# Altium footprint library MainBLib.PcbLib: 36 footprints (part 1 of 3)
Each footprint in its own frame and in the unit in brackets; x right, y up, seen from the top. Pads: shape width x height; smd on the part's side, far side on the other; paste and mask are expansions set on the pad; w line width, h text height; cw(c..) or ccw(c..) is an arc to the next point about the centre after c.
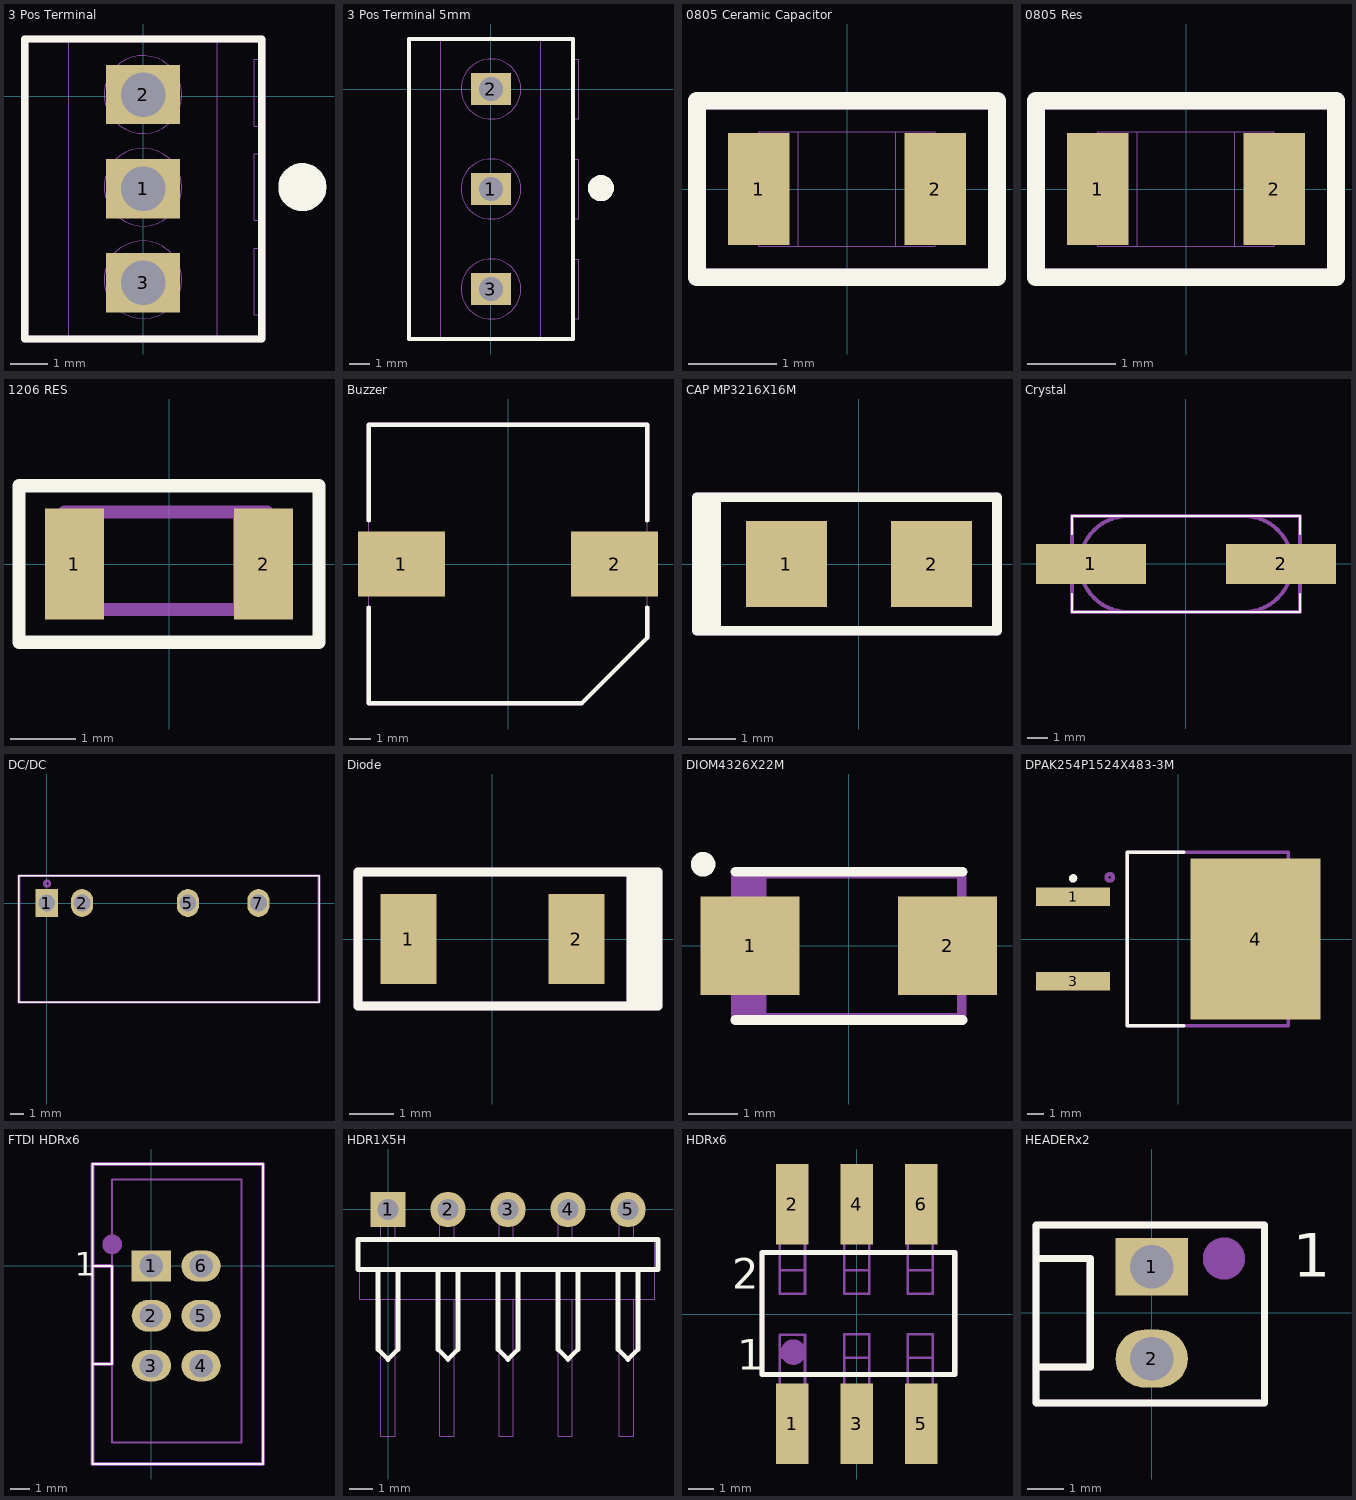
[diagram p0: the footprints below, top view; thin cyan lines are the x and y axes]

## 3 Pos Terminal [mm]
pads (3):
  rect 2x1.6 hole 1.2: 1(0,-2.5) 2(0,0.04) 3(0,-5.04)
Top Overlay:
  circle w0.7: c4.3,-2.46 r0.3
  lines w0.2: -3.2,-6.56 3.2,-6.56 3.2,1.54 -3.2,1.54 -3.2,-6.56
Mechanical 1:
  circle w0: c0,0.04 r1.05
  circle w0: c0,-2.46 r1.05
  circle w0: c0,-4.96 r1.05
  lines w0: -2,-6.56 -2,1.54 ; 2,-6.56 2,1.54 ; -3.2,-6.56 -3.2,1.54 3.2,1.54 3.2,-6.56 -3.2,-6.56 ; -0.1,-5.36 0.1,-5.36 0.1,-4.56 -0.1,-4.56 -0.1,-5.36 ; -0.1,-2.86 0.1,-2.86 0.1,-2.06 -0.1,-2.06 -0.1,-2.86 ; -0.1,-0.36 -0.1,0.44 0.1,0.44 0.1,-0.36 -0.1,-0.36 ; 2.999,-5.91 2.999,-4.11 3.299,-4.11 3.299,-5.91 3.099,-5.91 2.999,-5.91 ; 3,-3.36 3.1,-3.36 3.3,-3.36 3.3,-1.56 3,-1.56 3,-3.36 ; 2.999,-0.81 3.099,-0.81 3.299,-0.81 3.299,0.99 2.999,0.99 2.999,-0.81
Mechanical 29:
  lines w0.2: -3.2,-6.56 -3.2,1.54 3.2,1.54 3.2,-6.56 -3.2,-6.56
  text "'.Designator'" at -0.9,-2.86 h1.2
3D body: height 8.51, standoff 0, extent -1.049,-6.009 1.049,-3.911
3D body: height 8.51, standoff 0, extent -1.049,-3.509 1.049,-1.411
3D body: height 8.51, standoff 0, extent -1.049,-1.009 1.049,1.089
3D body: height 4.5, standoff 0, extent -3.199,-6.559 3.199,1.539
3D body: height 8.5, standoff 4.5, extent -1.999,-6.559 1.999,1.539
3D body: height 0, standoff -3, extent -0.099,-5.36 0.099,-4.561
3D body: height 0, standoff -3, extent -0.099,-2.86 0.099,-2.061
3D body: height 0, standoff -3, extent -0.099,-0.359 0.099,0.439
3D body: height 3.8, standoff 1, extent 3.201,-0.809 3.299,0.989
3D body: height 3.8, standoff 1, extent 3.201,-3.359 3.299,-1.561
3D body: height 3.8, standoff 1, extent 3.201,-5.909 3.299,-4.111

## 3 Pos Terminal 5mm [mm]
pads (3):
  rect 2x1.6 hole 1.2: 1(0,-5) 2(0,0) 3(0,-10)
Top Overlay:
  circle w0.7: c5.5,-4.96 r0.3
  lines w0.2: -4.1,-12.5 -4.1,2.5 4.1,2.5 4.1,-12.5 -4.1,-12.5
Mechanical 1:
  circle w0: c0,-10 r1.5
  circle w0: c0,0 r1.5
  circle w0: c0,-5 r1.5
  lines w0: -2.5,-12.5 -2.5,2.5 ; 2.5,-12.5 2.5,2.5 ; 4.1,-11.5 4.4,-11.5 4.4,-8.5 4.1,-8.5 ; 4.1,-6.5 4.4,-6.5 4.4,-3.5 4.1,-3.5 ; 4.1,-1.5 4.4,-1.5 4.4,1.5 4.1,1.5 ; -4.1,-12.5 -4.1,2.5 4.1,2.5 4.1,-12.5 -4.1,-12.5
Mechanical 29:
  circle w0.7: c5.5,-4.96 r0.3
  lines w0.2: -4.1,-12.5 4.1,-12.5 4.1,2.5 -4.1,2.5 -4.1,-12.5
  text "'.Designator'" at 0.5,-5.8 h1.2
3D body: height 4, standoff 1, extent 3.901,-1.499 4.199,1.499
3D body: height 4, standoff 1, extent 3.901,-6.499 4.199,-3.501
3D body: height 4, standoff 1, extent 3.901,-11.499 4.199,-8.501
3D body: height 10.01, standoff 0, extent -1.499,-1.499 1.499,1.499
3D body: height 10.01, standoff 0, extent -1.499,-6.499 1.499,-3.501
3D body: height 10, standoff 5, extent -2.499,-12.499 2.499,2.499
3D body: height 5, standoff 0, extent -4.099,-12.499 4.099,2.499
3D body: height 10.01, standoff 0, extent -1.499,-11.499 1.499,-8.501
3D body: height 0, standoff -3, extent -0.099,-10.449 0.1,-9.65
3D body: height 0, standoff -3, extent -0.099,-5.449 0.1,-4.65
3D body: height 0, standoff -3, extent -0.099,-0.35 0.1,0.449

## 0805 Ceramic Capacitor [mm]
pads (2):
  rect 0.7x1.27 smd: 1(-1,0) 2(1,0)
Top Overlay:
  lines w0.2: -1.7,-1 -1.7,1 1.7,1 1.7,-1 -1.7,-1
Mechanical 1:
  lines w0: -0.55,-0.65 -0.55,0.65 ; 0.55,-0.65 0.55,0.65 ; -1,-0.65 -1,0.65 1,0.65 1,-0.65 -1,-0.65
Mechanical 29:
  lines w0.2: -1.7,-1 1.7,-1 1.7,1 -1.7,1 -1.7,-1
  text "'.Designator'" at -1.1,-0.4 h0.9
3D body: height 0.8, standoff 0, extent -0.549,-0.649 0.549,0.649
3D body: height 0.8, standoff 0, extent 0.551,-0.649 0.999,0.649
3D body: height 0.8, standoff 0, extent -0.999,-0.649 -0.551,0.649

## 0805 Res [mm]
pads (2):
  rect 0.7x1.27 smd: 1(-1,0) 2(1,0)
Top Overlay:
  lines w0.2: -1.7,-1 1.7,-1 1.7,1 -1.7,1 -1.7,-1
Mechanical 1:
  lines w0: -0.55,-0.65 -0.55,0.65 ; 0.55,-0.65 0.55,0.65 ; -1,-0.65 1,-0.65 1,0.65 -1,0.65 -1,-0.65
Mechanical 29:
  lines w0.2: -1.7,-1 -1.7,1 1.7,1 1.7,-1 -1.7,-1
  text "'.Designator'" at -1.1,-0.4 h0.9
3D body: height 0.8, standoff 0, extent -0.999,-0.649 -0.551,0.649
3D body: height 0.8, standoff 0, extent 0.551,-0.649 0.999,0.649
3D body: height 0.8, standoff 0, extent -0.549,-0.649 0.549,0.649

## 1206 RES [mm]
pads (2):
  rect 0.9x1.7 smd: 1(-1.45,0) 2(1.45,0)
Top Overlay:
  lines w0.2: -2.3,-1.2 -2.3,1.2 2.3,1.2 2.3,-1.2 -2.3,-1.2
Mechanical 1:
  lines w0.04: -1.6,0.8 -1.6,-0.7 1.5,-0.7 1.5,0.8 -1.599,0.799 ; -1.1,-0.7 -1.1,0.8 ; 1,-0.7 1,0.8
Mechanical 29:
  lines w0.2: -1.6,0.8 -1.6,-0.7 1.5,-0.7 1.5,0.8 -1.599,0.799
  text "'.Designator'" at -1.2,-0.5 h1
3D body: height 0.55, standoff 0, extent 1.001,-0.699 1.499,0.799
3D body: height 0.55, standoff 0, extent -1.099,-0.699 0.999,0.799
3D body: height 0.55, standoff 0, extent -1.599,-0.699 -1.101,0.799

## Buzzer [mm]
pads (2):
  rect 4x3 smd: 1(-4.9,0) 2(4.9,0)
Top Overlay:
  lines w0.2: -6.4,-2 -6.4,-6.4 3.4,-6.4 6.4,-3.4 6.4,-2 ; -6.4,2 -6.4,6.4 6.4,6.4 6.4,2
Mechanical 1:
  lines w0: -6.4,-6.4 -6.4,2 -6.4,6.4 6.4,6.4 6.4,-2 6.4,-3.4 3.4,-6.4 -6.4,-6.4
Mechanical 29:
  lines w0.2: -6.4,-2 -6.4,-6.4 3.4,-6.4 6.4,-3.4 6.4,-2 ; -6.4,2 -6.4,6.4 6.4,6.4 6.4,2
  text "'.Designator'" at -1.1,0 h0.9
3D body: height 7, standoff 0, extent -6.401,-6.401 6.401,6.401

## CAP MP3216X16M [mm] "Molded Capacitor, 2-Leads, Body 3.20x1.60mm, IPC Low Density"
height 1.6
pads (2):
  rect 1.7x1.8 smd: 1(-1.525,0) 2(1.525,0)
Top Overlay:
  rectangle: -3.4,-1.5 -2.9,1.5
  lines w0.2: -3.4,-1.4 -3.4,1.4 2.9,1.4 2.9,-1.4 -3.4,-1.4
Mechanical 29:
  rectangle: -3.4,-1.5 -2.9,1.5
  lines w0.2: -3.4,-1.4 2.9,-1.4 2.9,1.4 -3.4,1.4 -3.4,-1.4
  text "'.Designator'" at -1.7,-0.5 h1.2
3D body "CAPMP3216X16M.step": height 1.6, standoff 0, extent -1.92,-0.9 1.92,0.9

## Crystal [mm]
pads (2):
  rect 5.5x2 smd: 1(-4.75,0) 2(4.75,0)
Top Overlay:
  lines w0.1: 5.7,-1.5 5.7,-2.4 -5.7,-2.4 -5.7,-1.5 ; 5.7,1.5 5.7,2.4 -5.7,2.4 -5.7,1.5 ; -5.7,-1.5 -5.7,-1.5 ; -5.7,1.5 -5.7,1.5
Mechanical 1:
  lines w0.1: -5.7,-2.4 -5.7,2.4 ; 5.7,-2.4 5.7,2.4 ; -6.7,-0.3 -5.7,-0.3 -5.7,0.3 -6.7,0.3 -6.7,-0.3 ; -2.924,-2.4 cw(c-2.9,0) -2.924,2.4 2.924,2.4 cw(c2.9,0) 2.924,-2.4 -2.924,-2.4 ; 5.7,-0.3 6.7,-0.3 6.7,0.3 5.7,0.3 5.7,-0.3
Mechanical 29:
  lines w0.2: -2.924,-2.4 cw(c-2.9,0) -2.924,2.4 ; 2.924,-2.4 ccw(c2.9,0) 2.924,2.4 ; -5.7,-2.4 -5.7,2.4 5.7,2.4 5.7,-2.4 -5.7,-2.4
  text "'.Designator'" at -0.7,-0.5 h1.2
3D body: height 3.2, standoff 0.75, extent -5.301,-2.401 5.301,2.401
3D body: height 0.2, standoff 0, extent 5.701,-0.299 6.699,0.299
3D body: height 0.2, standoff 0, extent -6.699,-0.299 -5.701,0.299
3D body: height 0.75, standoff 0, extent -5.75,-2.45 5.75,2.45

## DC/DC [mm]
pads (4):
  rect 1.6x2 hole 1.2: 1(0,0)
  oval 1.6x2 hole 1.2: 2(2.54,0) 5(10.16,0) 7(15.24,0)
Top Overlay:
  lines w0.1: -2,-7.14 -2,-2.04 -2,1.96 19.6,1.96 19.6,-7.14 -2,-7.14
Mechanical 1:
  lines w0.1: -2,-7.14 19.6,-7.14 19.6,1.96 -2,1.96 -2,-2.04 -2,-7.14 ; -0.3,-0.14 0.3,-0.14 0.3,0.06 -0.3,0.06 -0.3,-0.14 ; 2.3,-0.14 2.3,0.06 2.9,0.06 2.9,-0.14 2.3,-0.14 ; 9.8,-0.14 9.8,0.06 10.4,0.06 10.4,-0.14 9.8,-0.14 ; 14.9,-0.14 14.9,0.06 15.5,0.06 15.5,-0.14 14.9,-0.14
Mechanical 29:
  circle w0.2: c0.02,1.4 r0.2
  lines w0.2: -2,-7.14 19.6,-7.14 19.6,1.96 -2,1.96 -2,-2.04 -2,-7.14
  text "'.Designator'" at 7.12,-3.4 h1.2
3D body: height 10, standoff 0, extent -1.999,-7.139 19.599,1.959
3D body: height 0, standoff -4, extent -0.299,-0.139 0.299,0.059
3D body: height 0, standoff -4, extent 2.301,-0.139 2.899,0.059
3D body: height 0, standoff -4, extent 9.801,-0.139 10.399,0.059
3D body: height 0, standoff -4, extent 14.901,-0.139 15.499,0.059

## Diode [mm]
pads (2):
  rect 1.25x2 smd: 1(-1.875,0) 2(1.875,0)
Top Overlay:
  rectangle: 3,-1.5 3.7,1.5
  lines w0.2: -3,-1.5 3.7,-1.5 3.7,1.5 -3,1.5 -3,-1.5
Mechanical 29:
  rectangle: 3,-1.5 3.7,1.5
  lines w0.2: -3,-1.5 -3,1.5 3.7,1.5 3.7,-1.5 -3,-1.5
  text "'.Designator'" at -1.4,-0.5 h1.2
3D body: height 1.59, standoff 0, extent 1.6,-0.798 2,0.798
3D body: height 1.59, standoff 0, extent 1.3,-0.798 1.6,0.798
3D body: height 1.59, standoff 0, extent -1.4,-0.798 1.3,0.798
3D body: height 1.59, standoff 0, extent -1.8,-0.798 -1.4,0.798

## DIOM4326X22M [mm] "Molded Diode, 2-Leads, Body 4.31x2.60mm, IPC Low Density"
height 2.2
pads (2):
  rect 2x2 smd: 1(-2,0) 2(2,0)
Top Overlay:
  circle w0.25: c-2.95,1.65 r0.125
  lines w0.2: -2.3,-1.5 2.3,-1.5 ; -2.3,1.5 2.3,1.5
Mechanical 29:
  rectangle: -2.285,-1.46 -1.67,1.46
  lines w0.2: -2.285,-1.46 2.285,-1.46 2.285,1.46 -2.285,1.46 -2.285,-1.46
  text "'.Designator'" at -0.8,-0.6 h1.2
3D body "DIOM4326X22M.step": height 2.2, standoff 0, extent -2.505,-1.46 2.505,1.46

## DPAK254P1524X483-3M [mm] "D2-PAK, 3-Pads, Body 7.93x8.57mm (max), IPC Low Density"
height 4.83
pads (3):
  rect 4.45x1.1 smd: 1(-6.3,2.54) 3(-6.3,-2.54)
  rect 7.8x9.65 smd: 4(4.65,0)
Top Overlay:
  circle w0.25: c-6.3,3.64 r0.125
  lines w0.2: 0.35,-5.2 -3.05,-5.2 -3.05,5.2 0.35,5.2
Mechanical 29:
  circle w0.25: c-4.1,3.7 r0.2
  lines w0.2: -3.05,-5.2 -3.05,5.2 6.6,5.2 6.6,-5.2 -3.05,-5.2
  text "'.Designator'" at 1.3,1 h1.2
3D body "DPAK254P1524X483-3M.step": height 4.83, standoff 0, extent -6.981,-5.2 8.259,5.2

## FTDI HDRx6 [mm]
pads (6):
  rect 2x1.6 hole 1.2: 1(0,0)
  oval 2x1.6 hole 1.2: 2(0,-2.54) 3(0,-5.08) 4(2.54,-5.08) 5(2.54,-2.54) 6(2.54,0)
Top Overlay:
  lines w0.1: -3,-5 -2,-5 -2,0 -3,0 ; -3,-10.1 5.7,-10.1 5.7,5.2 -3,5.2 -3,-10.1
  text "1" at -3.9,-0.5 h1.2
Mechanical 1:
  lines w0.1: -3,-5 -2,-5 -2,-9 4.6,-9 4.6,4.4 -2,4.4 -2,0 -3,0 ; -3,-5 -3,-10.1 5.7,-10.1 5.7,5.2 -3,5.2 -3,0 ; -3,-5 -3,0 ; -0.3,-5.3 -0.3,-4.7 0.3,-4.7 0.3,-5.3 -0.3,-5.3 ; -0.3,-2.8 -0.3,-2.2 0.3,-2.2 0.3,-2.8 -0.3,-2.8 ; -0.3,-0.3 0.3,-0.3 0.3,0.3 -0.3,0.3 -0.3,-0.3 ; 2.2,-5.3 2.8,-5.3 2.8,-4.7 2.2,-4.7 2.2,-5.3 ; 2.2,-2.8 2.8,-2.8 2.8,-2.2 2.2,-2.2 2.2,-2.8 ; 2.2,-0.3 2.2,0.3 2.8,0.3 2.8,-0.3 2.2,-0.3
Mechanical 29:
  circle w0.8: c-2,1.1 r0.1
  lines w0.2: -3,-5 -2,-5 -2,0 -3,0 ; -3,-10.1 -3,5.2 5.7,5.2 5.7,-10.1 -3,-10.1
  text "'.Designator'" at 1.8,-3.5 h1.2
3D body: height 2.6, standoff 0, extent -3.05,-10.15 5.75,5.25
3D body: height 9.1, standoff 0, extent -2.999,-10.099 5.699,5.199
3D body: height 9, standoff -3, extent -0.299,-5.299 0.299,-4.701
3D body: height 9, standoff -3, extent -0.299,-2.799 0.299,-2.201
3D body: height 9, standoff -3, extent -0.299,-0.299 0.299,0.299
3D body: height 9, standoff -3, extent 2.201,-5.299 2.799,-4.701
3D body: height 9, standoff -3, extent 2.201,-2.799 2.799,-2.201
3D body: height 9, standoff -3, extent 2.201,-0.299 2.799,0.299

## HDR1X5H [mm] "Connector; Header; 5 Position; Right Angle"
pads (5):
  rect 1.5x1.5 hole 0.9: 1(0,0)
  round 1.5 hole 0.9: 2(2.54,0) 3(5.08,0) 4(7.62,0) 5(10.16,0)
Top Overlay:
  lines w0.2: -0.423,-2.54 -0.423,-5.927 0,-6.35 0.423,-5.927 0.423,-2.54 ; 2.117,-2.54 2.117,-5.927 2.54,-6.35 2.963,-5.927 2.963,-2.54 ; 4.657,-2.54 4.657,-5.927 5.08,-6.35 5.503,-5.927 5.503,-2.54 ; 7.197,-2.54 7.197,-5.927 7.62,-6.35 8.043,-5.927 8.043,-2.54 ; 9.737,-2.54 9.737,-5.927 10.16,-6.35 10.583,-5.927 10.583,-2.54 ; -1.27,-2.54 11.43,-2.54 11.43,-1.27 -1.27,-1.27 -1.27,-2.54
Mechanical 1:
  lines w0: -0.3,-3.8 -0.3,-9.6 0.3,-9.6 0.3,-3.8 ; -0.3,-0.4 0.3,-0.4 ; 2.2,-3.8 2.2,-9.6 2.8,-9.6 2.8,-3.8 ; 2.2,-0.4 2.8,-0.4 ; 4.7,-3.8 4.7,-9.6 5.3,-9.6 5.3,-3.8 ; 4.7,-0.4 5.3,-0.4 ; 7.2,-3.8 7.2,-9.6 7.8,-9.6 7.8,-3.8 ; 7.2,-0.4 7.8,-0.4 ; 9.8,-3.8 9.8,-9.6 10.4,-9.6 10.4,-3.8 ; 9.8,-0.4 10.4,-0.4 ; -1.2,-3.8 11.3,-3.8 11.3,-1.3 -1.2,-1.3 -1.2,-3.8 ; -0.3,-1.3 -0.3,0.2 0.3,0.2 0.3,-1.3 -0.3,-1.3 ; 2.2,-1.3 2.2,0.2 2.8,0.2 2.8,-1.3 2.2,-1.3 ; 4.7,-1.3 4.7,0.2 5.3,0.2 5.3,-1.3 4.7,-1.3 ; 7.2,-1.3 7.2,0.2 7.8,0.2 7.8,-1.3 7.2,-1.3 ; 9.8,-1.3 9.8,0.2 10.4,0.2 10.4,-1.3 9.8,-1.3
3D body: height 1.55, standoff -1.5, extent 7.201,-0.399 7.799,0.199
3D body: height 1.55, standoff 0.95, extent 7.201,-1.299 7.799,-0.401
3D body: height 1.55, standoff 0.95, extent 7.201,-9.599 7.799,-3.801
3D body: height 1.55, standoff -1.5, extent 4.701,-0.399 5.299,0.199
3D body: height 1.55, standoff 0.95, extent 4.701,-1.299 5.299,-0.401
3D body: height 1.55, standoff -1.5, extent 2.201,-0.399 2.799,0.199
3D body: height 1.55, standoff 0.95, extent 2.201,-1.299 2.799,-0.401
3D body: height 1.55, standoff -1.5, extent -0.299,-0.399 0.299,0.199
3D body: height 1.55, standoff 0.95, extent 4.701,-9.599 5.299,-3.801
3D body: height 1.55, standoff 0.95, extent 2.201,-9.599 2.799,-3.801
3D body: height 1.55, standoff 0.95, extent -0.299,-1.299 0.299,-0.401
3D body: height 1.55, standoff 0.95, extent -0.299,-9.599 0.299,-3.801
3D body: height 1.55, standoff 0.95, extent 9.801,-1.299 10.399,-0.401
3D body: height 1.55, standoff -1.5, extent 9.801,-0.399 10.399,0.199
3D body: height 2.5, standoff 0, extent -1.199,-3.799 11.299,-1.301
3D body: height 1.55, standoff 0.95, extent 9.801,-9.599 10.399,-3.801

## HDRx6 [mm]
pads (6):
  rect 1.27x3.18 smd: 1(-2.54,-4.32) 2(-2.54,4.32) 3(0,-4.32) 4(0,4.32) 5(2.54,-4.32) 6(2.54,4.32)
Top Overlay:
  lines w0.2: -3.74,-2.38 -3.74,2.42 3.86,2.42 3.86,-2.38 -3.74,-2.38
  text "1" at -4.7,-2.2 h1.2
  text "2" at -4.9,1 h1.2
Mechanical 1:
  lines w0.1: -3.74,-2.38 -3.74,2.42 -3.04,2.42 ; -3.739,-2.381 -3.039,-2.381 ; -3.04,-1.73 -2.04,-1.73 ; -3.04,1.72 -2.04,1.72 ; -2.041,-2.381 -0.499,-2.381 ; -2.041,2.421 -0.499,2.421 ; -0.5,-1.725 0.5,-1.725 ; -0.5,1.725 0.5,1.725 ; 0.499,-2.381 2.001,-2.381 ; 0.499,2.421 2.001,2.421 ; 2,-1.725 3,-1.725 ; 2,1.725 3,1.725 ; 3,-2.38 3.86,-2.38 3.86,2.42 2.999,2.421 ; -3.04,-5.23 -3.04,-0.81 -2.04,-0.81 -2.04,-5.23 -3.04,-5.23 ; -3.04,0.8 -2.04,0.8 -2.04,5.22 -3.04,5.22 -3.04,0.8 ; -0.5,-5.225 0.5,-5.225 0.5,-0.805 -0.5,-0.805 -0.5,-5.225 ; -0.5,0.805 -0.5,5.225 0.5,5.225 0.5,0.805 -0.5,0.805 ; 2,-5.225 3,-5.225 3,-0.805 2,-0.805 2,-5.225 ; 2,0.805 2,5.225 3,5.225 3,0.805 2,0.805
Mechanical 29:
  circle w0.8: c-2.5,-1.5 r0.1
  lines w0.2: -3.74,-2.38 3.86,-2.38 3.86,2.42 -3.74,2.42 -3.74,-2.38
  text "'.Designator'" at -1.2,-0.3 h1.2
3D body: height 3.54, standoff 1, extent -3.739,-2.379 3.859,2.419
3D body: height 1, standoff 0, extent -3.039,-5.229 -2.041,-1.731
3D body: height 9, standoff 0, extent -3.039,-1.729 -2.041,-0.811
3D body: height 1, standoff 0, extent -0.499,-5.224 0.499,-1.726
3D body: height 9, standoff 0, extent -0.499,-1.724 0.499,-0.806
3D body: height 9, standoff 0, extent -3.039,0.801 -2.041,1.719
3D body: height 1, standoff 0, extent -3.039,1.721 -2.041,5.219
3D body: height 9, standoff 0, extent -0.499,0.806 0.499,1.724
3D body: height 1, standoff 0, extent -0.499,1.726 0.499,5.224
3D body: height 1, standoff 0, extent 2.001,-5.224 2.999,-1.726
3D body: height 9, standoff 0, extent 2.001,-1.724 2.999,-0.806
3D body: height 9, standoff 0, extent 2.001,0.806 2.999,1.724
3D body: height 1, standoff 0, extent 2.001,1.726 2.999,5.224

## HEADERx2 [mm]
pads (2):
  rect 2x1.6 hole 1.2: 1(0,1.27)
  oval 2x1.6 hole 1.2: 2(0,-1.27)
Top Overlay:
  lines w0.2: -3.2,-1.5 -1.7,-1.5 -1.7,1.5 -3.2,1.5 ; -3.2,-2.5 -3.2,2.43 3.125,2.43 3.125,-2.5 -3.2,-2.5
  text "1" at 3.9,1 h1.2
Mechanical 1:
  lines w0: -3.2,-1.5 -1.7,-1.5 -1.7,1.5 -3.2,1.5 ; -3.2,-2.5 3.125,-2.5 3.125,2.43 -3.2,2.43 -3.2,-2.5 ; -0.25,-1.525 -0.25,-1.025 0.25,-1.025 0.25,-1.525 -0.25,-1.525 ; -0.25,1.015 0.25,1.015 0.25,1.515 -0.25,1.515 -0.25,1.015
Mechanical 29:
  circle w0.6: c2,1.5 r0.283
  lines w0.2: -3.2,-1.5 -1.7,-1.5 -1.7,1.5 -3.2,1.5 ; -3.2,-2.5 3.125,-2.5 3.125,2.43 -3.2,2.43 -3.2,-2.5
  text "'.Designator'" at -1.4,-0.7 h1.2
3D body: height 10.67, standoff -3.56, extent -0.249,1.016 0.249,1.514
3D body: height 10.67, standoff -3.56, extent -0.249,-1.524 0.249,-1.026
3D body: height 8.18, standoff 0, extent -3.199,-1.499 -1.701,1.499
3D body: height 3.18, standoff 0, extent -3.3,-2.6 3.225,2.53